# Altium footprint library Pcblibv2.PcbLib: 88 footprints (part 3 of 6)
Each footprint in its own frame and in the unit in brackets; x right, y up, seen from the top. Pads: shape width x height; smd on the part's side, far side on the other; paste and mask are expansions set on the pad; w line width, h text height; cw(c..) or ccw(c..) is an arc to the next point about the centre after c.
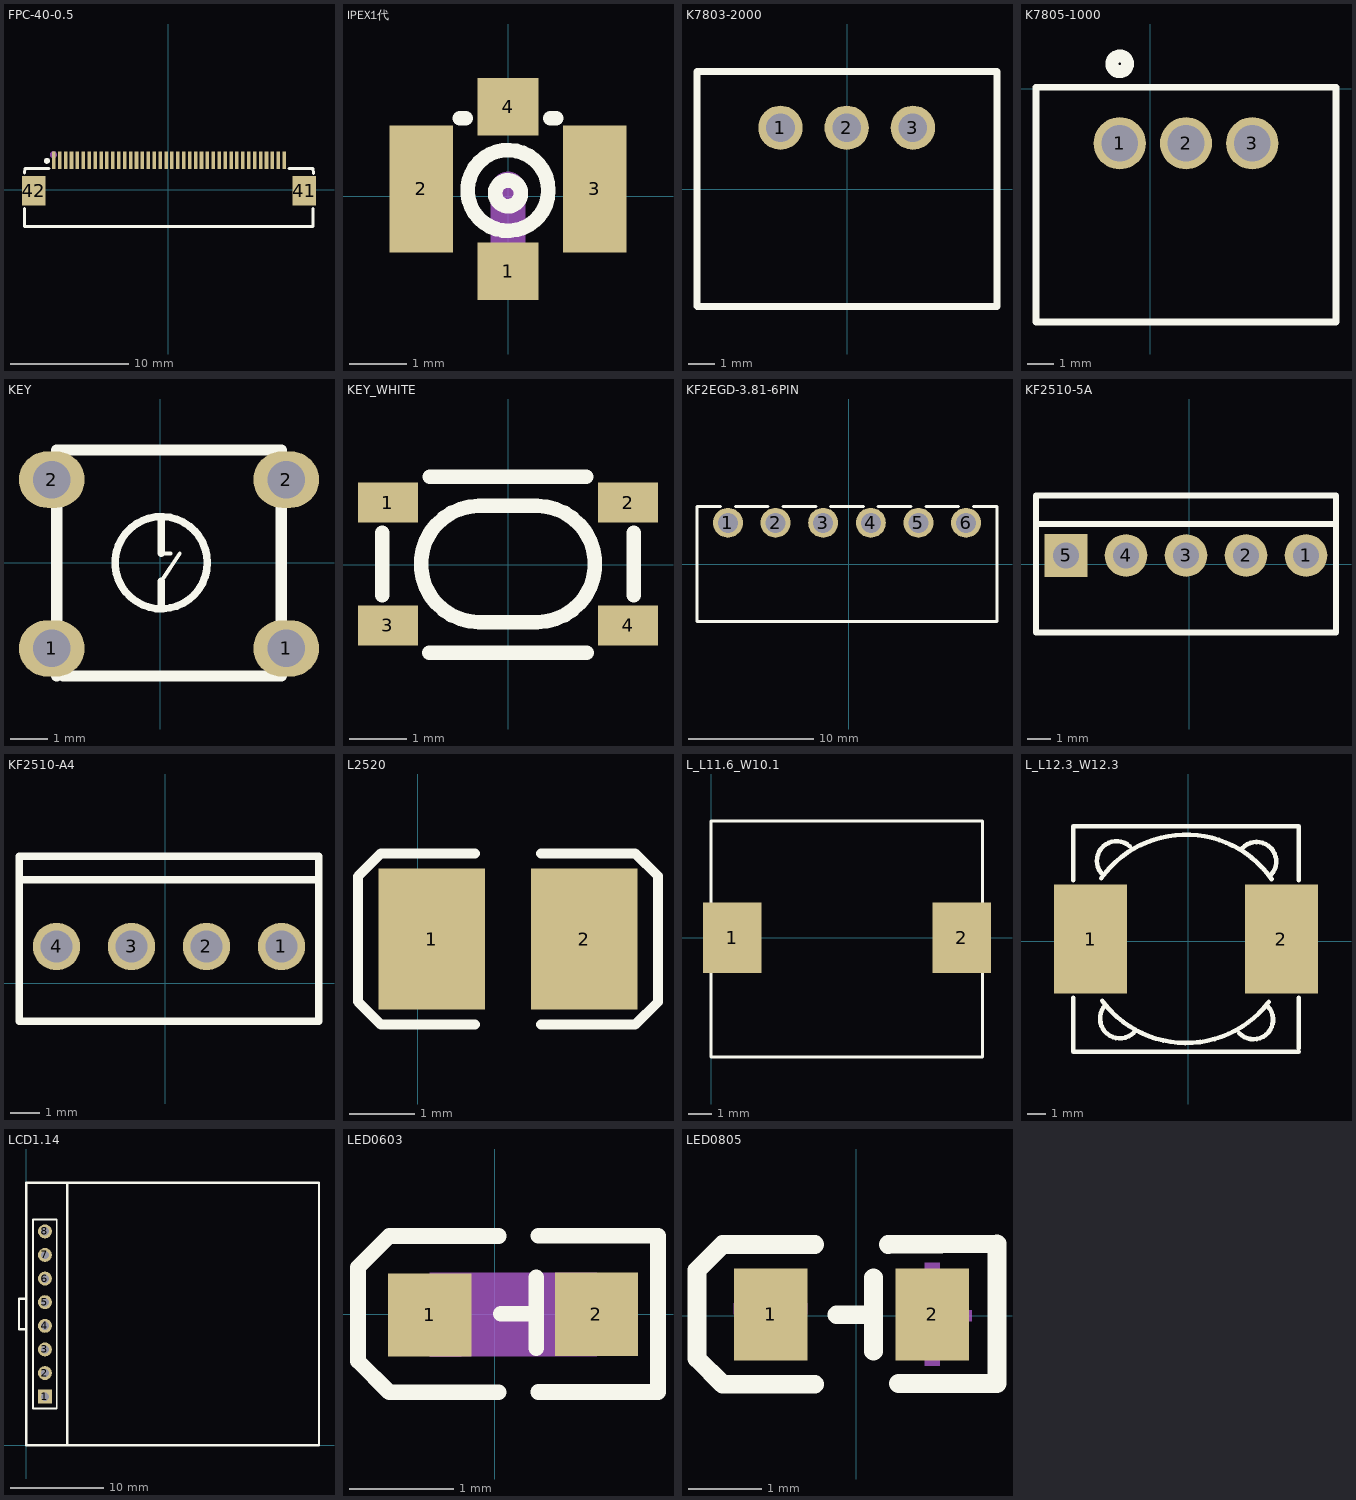
[diagram p2: the footprints below, top view; thin cyan lines are the x and y axes]

## FPC-40-0.5 [mm] "C2856812"
pads (42):
  rect 0.3x1.5 smd: 1(-9.704,2.485) 2(-9.204,2.485) 3(-8.704,2.485) 4(-8.204,2.485) 5(-7.704,2.485) 6(-7.204,2.485) 7(-6.704,2.485) 8(-6.204,2.485) 9(-5.704,2.485) 10(-5.204,2.485) 11(-4.704,2.485) 12(-4.204,2.485) 13(-3.704,2.485) 14(-3.204,2.485) 15(-2.704,2.485) 16(-2.204,2.485) 17(-1.704,2.485) 18(-1.204,2.485) 19(-0.704,2.485) 20(-0.204,2.485) 21(0.296,2.485) 22(0.796,2.485) 23(1.296,2.485) 24(1.796,2.485) 25(2.296,2.485) 26(2.796,2.485) 27(3.296,2.485) 28(3.796,2.485) 29(4.296,2.485) 30(4.796,2.485) 31(5.296,2.485) 32(5.796,2.485) 33(6.296,2.485) 34(6.796,2.485) 35(7.296,2.485) 36(7.796,2.485) 37(8.296,2.485) 38(8.796,2.485) 39(9.296,2.485) 40(9.796,2.485)
  rect 2x2.5 smd: 41(11.486,-0.09) 42(-11.394,-0.09)
Top Overlay:
  circle w0.254: c-10.281,2.437 r0.127
  lines w0.254: -12.183,-3.133 -12.183,-1.597 ; -12.167,1.411 -12.154,1.786 -10.085,1.786 ; -12.154,-3.126 12.246,-3.126 ; 10.177,1.802 12.246,1.802 12.255,1.351 ; 12.212,-3.133 12.219,-1.595
Mechanical 15:
  circle w0.3: c-9.733,2.945 r0.15

## FPC_28PIN_0.5 [mm]

## IPEX1代 [mm]
pads (4):
  rect 1.05x1 smd: 1(-0.002,-1.298) 4(-0.002,1.552)
  rect 1.1x2.2 smd: 2(-1.503,0.127) 3(1.497,0.127)
Top Overlay:
  circle w0.254: c-0.003,0.052 r0.224
  circle w0.254: c-0.003,0.102 r0.7
  lines w0.254: -0.839,1.352 -0.734,1.352 ; 0.729,1.352 0.834,1.352
Mechanical 15:
  circle w0.3: c-0.003,0.127 r0.15
  circle w0.2: c-0.303,-1.498 r0.1
  region: 0.297,-0.873 0.297,0.127 -0.303,0.127 -0.303,-0.873

## K7803-2000 [mm]
pads (3):
  round 1.7 hole 1.1: 1(-2.553,2.349) 2(-0.013,2.349) 3(2.527,2.349)
Top Overlay:
  lines w0.254: -5.753,-4.491 -5.753,4.508 ; -5.748,-4.508 5.753,-4.508 ; -5.747,4.508 5.753,4.508 5.753,-4.491

## K7805-1000 [mm]
pads (3):
  round 2 hole 1.4: 1(-1.168,-2.097) 2(1.372,-2.097) 3(3.912,-2.097)
Top Overlay:
  circle w0.5: c-1.168,0.951 r0.3
  lines w0.254: -4.378,-8.947 7.122,-8.947 7.122,0.053 -4.378,0.053 -4.378,-8.947

## KEY [mil] "鸿源"
pads (4):
  oval 70x60 hole 40: 1(-115.73,-91.39) 1(134.27,-91.39) 2(-115.73,88.61) 2(134.27,88.61)
Top Overlay:
  circle w8: c1,0 r49.21
  lines w4: 1,-19.68 20.68,9.84 ; 1,9.84 10.84,9.84
  lines w8: 1,-49.21 1,-19.68 ; 1,9.84 1,49.21
  lines w12: -110.42,-120.87 -110.42,120.08 128.95,120.08 128.95,-120.87 -103.53,-120.87

## KEY_WHITE [mm]
pads (4):
  rect 1.05x0.7 smd: 1(-2.1,1.088) 2(2.1,1.088) 3(-2.1,-1.062) 4(2.1,-1.062)
Top Overlay:
  lines w0.254: -2.2,-0.531 -2.2,0.557 ; -1.381,-1.537 1.381,-1.537 ; -1.366,1.537 1.366,1.537 ; 2.2,-0.531 2.2,0.557 ; -0.508,-1.003 cw(c-0.508,0.013) -0.508,1.029 0.508,1.029 cw(c0.508,0.013) 0.508,-1.003 -0.508,-1.003

## KF2EGD-3.81-6PIN [mm]
pads (6):
  round 2.4 hole 1.6: 1(-9.652,3.3) 2(-5.842,3.3) 3(-2.032,3.3) 4(1.778,3.3) 5(5.588,3.3) 6(9.398,3.3)
Top Overlay:
  lines w0.254: -10.247,4.6 -12.127,4.6 -12.127,-4.6 11.873,-4.6 11.873,4.6 9.993,4.6 ; -9.057,4.6 -6.437,4.6 ; -5.247,4.6 -2.627,4.6 ; -1.437,4.6 1.183,4.6 ; 2.373,4.6 4.993,4.6 ; 6.183,4.6 8.803,4.6

## KF2510-5A [mm]
pads (5):
  round 1.8 hole 1.1: 1(4.953,0.36) 2(2.413,0.36) 3(-0.127,0.36) 4(-2.667,0.36)
  rect 1.8x1.8 hole 1.1: 5(-5.207,0.36)
Top Overlay:
  lines w0.254: -6.477,1.7 6.223,1.7 ; -6.477,-2.9 -6.477,2.9 6.223,2.9 6.223,-2.9 -6.477,-2.9

## KF2510-A4 [mm]
pads (4):
  round 1.6 hole 1.1: 1(3.937,1.245) 2(1.397,1.245) 3(-1.143,1.245) 4(-3.683,1.245)
Top Overlay:
  lines w0.254: -4.928,3.505 5.08,3.505 ; -4.953,-1.295 5.207,-1.295 5.207,4.293 -4.953,4.293 -4.953,-0.025 -4.953,-1.295

## L2520 [mm] "电感"
pads (2):
  rect 1.635x2.16 smd: 1(0.212,-6.967) 2(2.547,-6.967)
Top Overlay:
  lines w0.152: 0.871,-8.275 -0.569,-8.275 -0.917,-7.927 -0.917,-6.007 -0.569,-5.659 0.871,-5.659 ; 1.887,-8.275 3.327,-8.275 3.675,-7.93 3.675,-6.005 3.327,-5.659 1.887,-5.659
Top Paste:
  region: 1.694,-7.947 1.694,-7.434 1.794,-7.334 2.185,-7.334 2.285,-7.234 2.285,-6.7 2.185,-6.6 1.794,-6.6 1.694,-6.5 1.694,-5.987 1.794,-5.887 3.264,-5.887 3.364,-5.987 3.364,-7.947 3.264,-8.047 1.794,-8.047
  region: 1.064,-7.947 1.064,-7.434 0.964,-7.334 0.573,-7.334 0.473,-7.234 0.473,-6.7 0.573,-6.6 0.964,-6.6 1.064,-6.5 1.064,-5.987 0.964,-5.887 -0.506,-5.887 -0.606,-5.987 -0.606,-7.947 -0.506,-8.047 0.964,-8.047

## L_L11.6_W10.1 [mm] "https://item.taobao.com/item.htm?spm=a1z10.3-c-s.w4002-21223910208.40.112c6a4bikeALD&id=528441541881"
pads (2):
  rect 2.5x3 smd: 1(0.886,0) 2(10.706,0)
Top Overlay:
  lines w0.127: -0.023,-5.105 11.577,-5.105 11.577,4.995 -0.023,4.995 -0.023,-5.105

## L_L12.3_W12.3 [mm] "功率电感"
pads (2):
  rect 4x6 smd: 1(-5.377,0.127) 2(5.123,0.127)
Top Overlay:
  lines w0.254: -6.327,-3.104 -6.327,-6.073 6.073,-6.073 ; -6.327,3.358 -6.327,6.327 6.073,6.327 6.073,3.358 ; -4.793,3.475 cw(c-0.127,0.127) 4.573,3.427 ; -4.727,-3.273 ccw(c-0.127,0.127) 4.425,-3.337 ; -4.677,3.631 cw(c-3.949,4.426) -3.227,5.227 ; -4.661,-3.632 ccw(c-3.768,-4.251) -2.885,-4.884 ; 2.8,-5.049 ccw(c3.584,-4.308) 4.373,-3.573 ; 2.961,5.115 cw(c3.756,4.387) 4.557,3.665 ; 6.073,-5.873 6.073,-3.104

## LCD1.14 [mm]
pads (8):
  rect 1.5x1.5 hole 0.9: 1(2.032,5.21)
  round 1.5 hole 0.9: 2(2.032,7.75) 3(2.032,10.29) 4(2.032,12.83) 5(2.032,15.37) 6(2.032,17.91) 7(2.032,20.45) 8(2.032,22.99)
Top Overlay:
  lines w0.2: 0.762,3.94 3.302,3.94 3.302,24.26 0.762,24.26 0.762,3.94
  lines w0.254: 0,12.446 -0.762,12.446 -0.762,15.748 0,15.748 ; 0,22.99 0,24.26 ; 4.445,0.003 4.445,14.103 4.445,28.203 ; 0,0 31.5,0 31.5,28.2 0,28.2 0,14.1 0,0

## LED0603 [mm]
pads (2):
  rect 0.8x0.8 smd: 1(-0.623,-0.009) 2(0.976,-0.002)
Top Overlay:
  lines w0.15: 0.037,-0.751 -1.013,-0.751 -1.313,-0.451 -1.313,-0.351 -1.313,0.349 -1.313,0.449 -1.013,0.749 0.037,0.749 ; 0.057,0.001 0.397,0.001 ; 0.397,-0.329 0.397,0.351 ; 0.417,-0.749 1.567,-0.749 ; 0.417,0.751 1.567,0.751 ; 1.567,-0.729 1.567,0.751
Mechanical 4:
  region: -0.623,-0.405 -0.623,0.395 0.977,0.395 0.977,-0.405
Mechanical 5:
  region: -0.623,-0.409 -0.623,0.391 -0.323,0.391 -0.323,-0.409
  region: 0.677,-0.402 0.677,0.398 0.977,0.398 0.977,-0.402
Mechanical 15:
  region: -0.893,0.056 -0.353,0.056 -0.353,-0.074 -0.893,-0.074
  region: 0.911,-0.272 0.911,0.268 1.041,0.268 1.041,-0.272
  region: 0.705,0.063 1.246,0.063 1.246,-0.067 0.705,-0.067
3D body "LED0603.STEP": height 0.6, standoff 0, extent -0.556,-0.425 1.064,0.374

## LED0805 [mm]
pads (2):
  rect 1x1.25 smd: 1(-1.167,0.02) 2(1.033,0.02)
Top Overlay:
  lines w0.254: -0.567,-0.93 -1.817,-0.93 ; -0.567,0.97 -1.817,0.97 ; -0.267,0.015 0.233,0.015 ; 0.233,-0.48 0.233,0.52 ; 0.433,0.97 1.913,0.98 1.913,-0.92 0.573,-0.92 ; -1.817,-0.93 -2.167,-0.58 -2.167,0.62 -1.817,0.97 ; -1.817,-0.93 -1.817,-0.93 ; -1.817,0.97 -1.817,0.97
Mechanical 15:
  region: -1.667,0.02 -0.667,0.02 -0.667,0.17 -1.667,0.17
  region: 0.568,-0.074 1.568,-0.074 1.568,0.076 0.568,0.076
  region: 0.933,0.72 1.133,0.72 1.133,-0.68 0.933,-0.68